# Altium schematic symbol library doan2.SchLib: 22 symbols
Pins are listed as number, name and electrical type; pins without a type are passive.

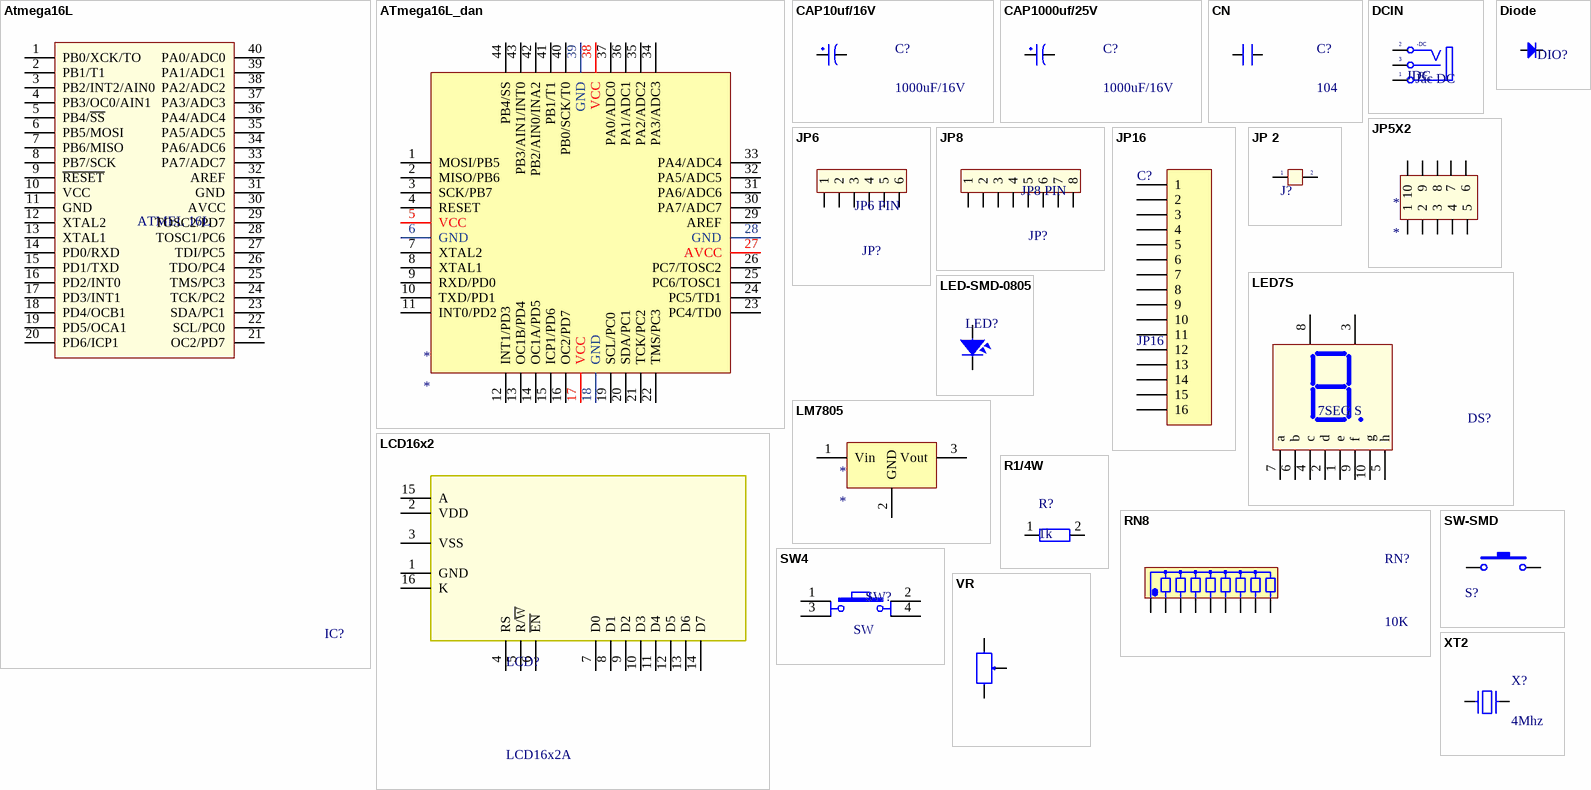
[diagram p0: symbols Atmega16L to XT2]

## Atmega16L
designator IC?, comment ATMEL 16L
8-Bit AVR Microcontroller with 16K Bytes of In-System Programmable Flash Memory; Value: Atmega 16L
footprint DIP40/W0.6 (40 PIN, W 600mil, Pin to pin 100mil)
pins: 1 PB0/XCK/TO, 2 PB1/T1, 3 PB2/INT2/AIN0, 4 PB3/OC0/AIN1, 5 PB4/~{SS}, 6 PB5/MOSI, 7 PB6/MISO, 8 PB7/SCK, 9 ~{RESET}, 10 VCC, 11 GND, 12 XTAL2, 13 XTAL1, 14 PD0/RXD, 15 PD1/TXD, 16 PD2/INT0, 17 PD3/INT1, 18 PD4/OCB1, 19 PD5/OCA1, 20 PD6/ICP1, 21 OC2/PD7, 22 SCL/PC0, 23 SDA/PC1, 24 TCK/PC2, 25 TMS/PC3, 26 TDO/PC4, 27 TDI/PC5, 28 TOSC1/PC6, 29 TOSC2/PD7, 30 AVCC, 31 GND, 32 AREF, 33 PA7/ADC7, 34 PA6/ADC6, 35 PA5/ADC5, 36 PA4/ADC4, 37 PA3/ADC3, 38 PA2/ADC2, 39 PA1/ADC1, 40 PA0/ADC0

## ATmega16L_dan
designator *
footprint DIP44/W0.6 (44PIN)
pins: 1 MOSI/PB5, 2 MISO/PB6, 3 SCK/PB7, 4 RESET, 5 VCC, 6 GND, 7 XTAL2, 8 XTAL1, 9 RXD/PD0, 10 TXD/PD1, 11 INT0/PD2, 12 INT1/PD3, 13 OC1B/PD4, 14 OC1A/PD5, 15 ICP1/PD6, 16 OC2/PD7, 17 VCC, 18 GND, 19 SCL/PC0, 20 SDA/PC1, 21 TCK/PC2, 22 TMS/PC3, 23 PC4/TD0, 24 PC5/TD1, 25 PC6/TOSC1, 26 PC7/TOSC2, 27 AVCC, 28 GND, 29 AREF, 30 PA7/ADC7, 31 PA6/ADC6, 32 PA5/ADC5, 33 PA4/ADC4, 34 PA3/ADC3, 35 PA2/ADC2, 36 PA1/ADC1, 37 PA0/ADC0, 38 VCC, 39 GND, 40 PB0/SCK/T0, 41 PB1/T1, 42 PB2/AIN0/INA2, 43 PB3/AIN1/INT0, 44 PB4/SS

## CAP10uf/16V
designator C?, comment 1000uF/16V
Cap 1000uF/16V - 220uF/50V; Description 5: 4,7uF>10uF/250V_3,3uF>10uF/400V - 2,2uF>4,7uF/450V; Description 1: 2200uF-3300uF/6,3V - 1000uF-2200uF/10V; Description 2: 1000uF/16V - 470uF => 1000uF/25V - 100uF/100V; Description 3: 330uF>470uF/35V_220uF>470uF/50V_10uF>22uF/250V; Description 4: 220uF => 330uF/63V - 10uF =>33uF/160 - 200V; Value: 1000uF/16V
footprint CAP10uf/16V (Aluminum Electrolytic Capacitor, Body 4.30x4.30x5.50mm, IPC Low Density)
pins: 1, 2

## CAP1000uf/25V
designator C?, comment 1000uF/16V
Cap 1000uF/16V - 220uF/50V; Description 5: 4,7uF>10uF/250V_3,3uF>10uF/400V - 2,2uF>4,7uF/450V; Description 1: 2200uF-3300uF/6,3V - 1000uF-2200uF/10V; Description 2: 1000uF/16V - 470uF => 1000uF/25V - 100uF/100V; Description 3: 330uF>470uF/35V_220uF>470uF/50V_10uF>22uF/250V; Description 4: 220uF => 330uF/63V - 10uF =>33uF/160 - 200V; Value: 1000uF/16V
footprint CAP1000uf/25V (Aluminum Electrolytic Capacitor, Body 13.45x13.45x13.50mm, IPC Low Density)
pins: 1, 2

## CN
designator C?, comment 104
Value: 0,1uF/300V; Designed by: VanDungEvn
footprint SM-CAP-0805 (Footprint not found)
footprint SM-Cap-1206
pins: 1, 2

## DCIN
designator JDC, comment Jac DC
Jac DC input; Value: Jac DC
footprint DC-IN (Footprint not found)
pins: 1 T "Tip", 2 TN "Tip Normal (Break Contact)", 3 S (power) "Sleeve (Ground)"
text: -DC; +DC

## Diode
designator DIO?
Default Diode; Code - JEDEC: DO-214-AB; Value: 1N5007; Published: 8-Jun-2000; Revision: July-2002: Re-released for DXP Platform.; Publisher: Altium Limited
footprint DIO-SMD-106
footprint DIO-SMD-123
pins: 1 A, 2 K

## JP5X2
designator *
footprint JP5X2
pins: 1, 2, 3, 4, 5, 6, 7, 8, 9, 10

## JP6
designator JP?, comment JP6 PIN
Value: JP7
footprint JP6
pins: 1, 2, 3, 4, 5, 6

## JP8
designator JP?, comment JP8 PIN
Value: JP7
footprint JP8
pins: 1, 2, 3, 4, 5, 6, 7, 8

## JP16
designator C?
WR-PHD 2.54 mm Angled Socket Header; Manufacturer: W¨¹rth Elektronik eiSos GmbH; partNo: 613016143121; ComponentLink1 Description: Manufacturer; ComponentLink2 Description: Datasheet; NoPins: 16; Created Date: 29 March 2013; ComponentLink1URL: http://www.we-online.com; ComponentLink2URL: http://katalog.we-online.de/em/datasheet/6130xx143121.pdf; Created by: Karrer Zheng
footprint JP16-D1C (16 pins, 1 row, right angled, gold plating)
footprint JP16-D1T (16  pins, 1 row, straight, gold plating)
footprint JP16-C1C (16p 1 row Right angle)
footprint JP16-C1T (16 row, straight, gold plating)
pins: 1, 2, 3, 4, 5, 6, 7, 8, 9, 10, 11, 12, 13, 14, 15, 16

## JP 2
designator J?, comment Jumper 2  (value not drawn)
Value: JP 2
footprint JP2
pins: 1, 2

## LCD16x2
designator LCD?, comment LCD16x2A
LCD dipslay 16 char, 2 line; Value: LCD16x2A
footprint LCD16X2 (LCD dipslay 16x2, 16 pin)
pins: 1 GND, 2 VDD, 3 VSS, 4 RS, 5 R/~{W}, 6 ~{EN}, 7 D0, 8 D1, 9 D2, 10 D3, 11 D4, 12 D5, 13 D6, 14 D7, 15 A, 16 K

## LED7S
designator DS?, comment 7SEG S
Single 7 Seg Dipslay; Value: LED 7S SEG
footprint 7SEGS (DIP 10 Leads; Body 12 x 15 mm; Pitch 0.5 mm)
pins: 1 e, 2 d, 3 Vcc, 4 c, 5 h, 6 b, 7 a, 8 Vcc, 9 f, 10 g

## LED-SMD-0805
designator LED?, comment LED SMD  (value not drawn)
footprint SM-LED-0805-Green - duplicate
footprint SM-LED-0805-Red
pins: 1, 2

## LM7805
designator *
footprint LM7805/DPAK (D2-PAK, 3-Pads, Body 7.78x8.56mm (max), IPC Medium Density)
pins: 1 Vin, 2 GND, 3 Vout

## R1/4W
designator R?, comment 1k
Resistor 1/4W; Value: R1/4W - 1K
footprint SM-RES-0805
pins: 1, 2

## RN8
designator RN?, comment 10K
Resistor 8 (Thanh); Value: Tro thanh 10K
footprint RN8 (R SIP8, 9 Pin)
pins: 1, 2, 3, 4, 5, 6, 7, 8, 9

## SW4
designator SW?, comment SW
Switch button 4 pin; Value: Button chip 4 pin
footprint SW4 (SW button 4pin, 250 x250 mil)
pins: 1, 2, 3, 4

## SW-SMD
designator S?  (value not drawn)
Switch; Published: 24-Mar-1999; LatestRevisionDate: 17-Jul-2002; LatestRevisionNote: Re-released for DXP Platform.; PackageReference: SPST-2; Publisher: Altium Limited
footprint SW-SMD (Switch SMD type)
pins: 1, 2

## VR
designator VR?, comment 10K
Var Resistor; Value: VR 10K
footprint VR1 (Variable Resistor)
footprint VR (Resistor Variable)
pins: 1, 2, 3

## XT2
designator X?, comment 4Mhz
Crystal For all Crystal 2pin.; Value: 4Mhz
footprint XT2 (Molded Capacitor, 2-Leads, Body 11.40x4.43mm, IPC Medium Density)
pins: 1, 2